# EAGLE library part XBEE (library Aldebaran)
XBee (TM) /XBee-PRO(TM) OEM RF Modules Source: MaxStream, Inc. xbee_productmanual.pdf
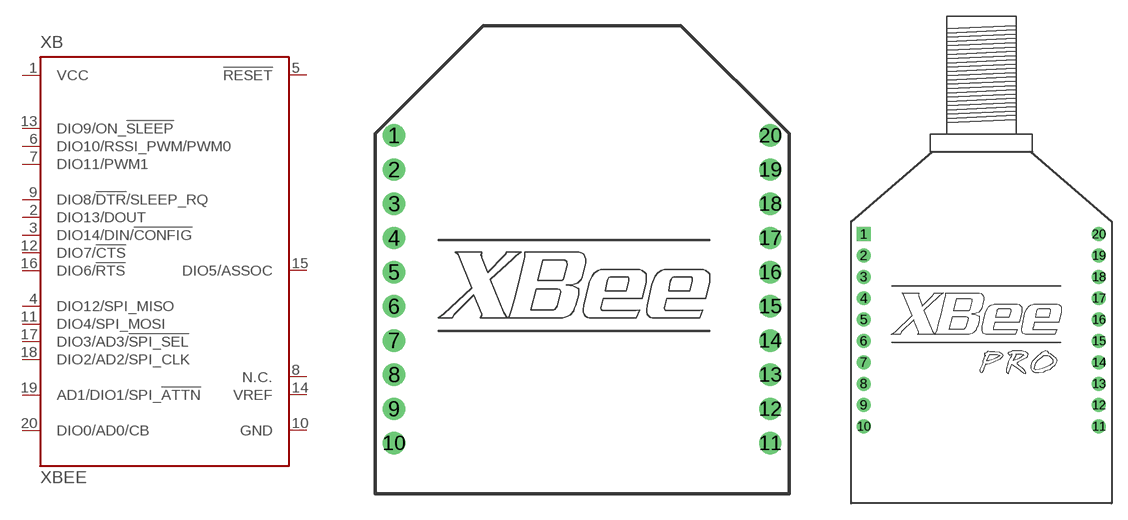
[diagram p8: symbol with the pads of XBEE; footprints XBEE, XBEE-PRO]

Designator prefix XB

## XBEE (MPN: XBP24-Z7UIT-004; OC_FARNELL: 1751799; OC_NEWARK: 34R5507)  [XBEE]
1  VCC  pwr
2  DIO13/DOUT  out
3  DIO14/DIN/!CONFIG  in
4  DIO12/SPI_MISO
5  !RESET  in
6  DIO10/RSSI_PWM/PWM0  out
7  DIO11/PWM1
8  N.C.
9  DIO8/!DTR!/SLEEP_RQ
10  GND  pwr
11  DIO4/SPI_MOSI
12  DIO7/!CTS!
13  DIO9/ON_!SLEEP  out
14  VREF  in
15  DIO5/ASSOC
16  DIO6/!RTS
17  DIO3/AD3/!SPI_SEL
18  DIO2/AD2/SPI_CLK
19  AD1/DIO1/SPI_!ATTN
20  DIO0/AD0/CB

## XBEE-PRO (MPN: XBP24-AWI-001; OC_FARNELL: 1337916; OC_NEWARK: 42M2667)  [XBEE-PRO]
Pads as for XBEE

## Footprint XBEE (pad centres in mm)
XBEE Source: http://www.maxstream.net/products/xbee/datasheet_XBee_OEM_RF-Modules.pdf
drill 0.8 pad 1.27: 1 -11,9; 2 -11,7; 3 -11,5; 4 -11,3; 5 -11,1; 6 -11,-1; 7 -11,-3; 8 -11,-5; 9 -11,-7; 10 -11,-9; 11 11,-9; 12 11,-7; 13 11,-5; 14 11,-3; 15 11,-1; 16 11,1; 17 11,3; 18 11,5; 19 11,7; 20 11,9

## Footprint XBEE-PRO (pad centres in mm)
XBEE Pro Source: http://www.maxstream.net/products/xbee/datasheet_XBee_OEM_RF-Modules.pdf
drill 0.8 pad 1.27 square: 1 -11,7.703
drill 0.8 pad 1.27: 2 -11,5.703; 3 -11,3.703; 4 -11,1.703; 5 -11,-0.297; 6 -11,-2.297; 7 -11,-4.297; 8 -11,-6.297; 9 -11,-8.297; 10 -11,-10.297; 11 11,-10.297; 12 11,-8.297; 13 11,-6.297; 14 11,-4.297; 15 11,-2.297; 16 11,-0.297; 17 11,1.703; 18 11,3.703; 19 11,5.703; 20 11,7.703